# Altium footprint library PCB - LED - DUAL LED 3025.PCBLIB: 1 footprints
Each footprint in its own frame and in the unit in brackets; x right, y up, seen from the top. Pads: shape width x height; smd on the part's side, far side on the other; paste and mask are expansions set on the pad; w line width, h text height; cw(c..) or ccw(c..) is an arc to the next point about the centre after c.
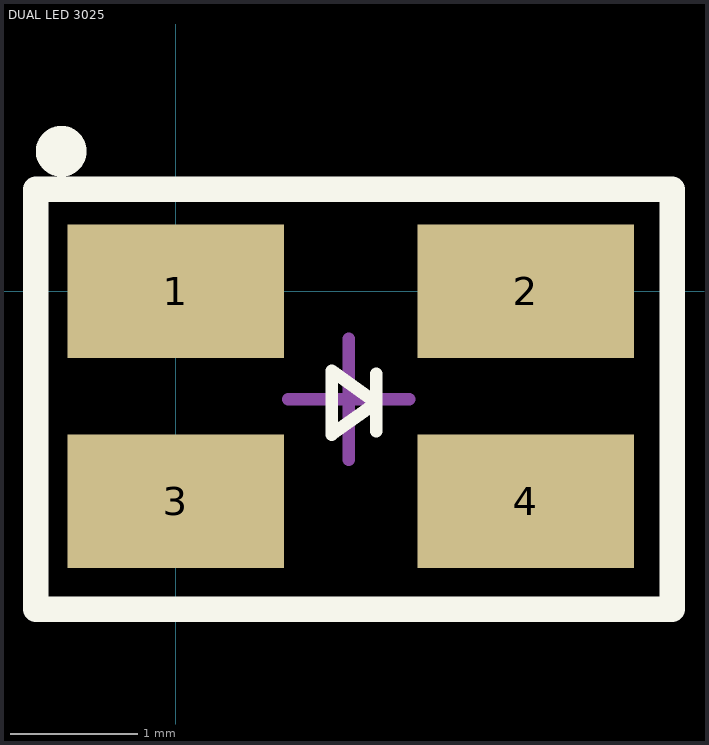
[diagram p0: the footprint, top view; thin cyan lines are the x and y axes]

## DUAL LED 3025 [mm] "Chip Diode, 4-Leads, Body 3.0x2.5mm, IPC Medium Density"
height 1.1
pads (4):
  rect 1.7x1.05 smd: 1(0,0) 2(2.75,0) 3(0,-1.65) 4(2.75,-1.65)
Top Overlay:
  circle w0.2: c-0.9,1.1 r0.1
  lines w0.1: 1.575,-1.1 1.575,-0.875 ; 1.575,-0.65 1.575,-0.875 ; 1.575,-0.875 1.225,-1.125 1.225,-0.875 1.225,-0.625 1.575,-0.875
  lines w0.2: -1.1,-2.5 3.9,-2.5 3.9,0.8 -1.1,0.8 -1.1,-2.5
Mechanical 13:
  lines w0.1: -1.1,-2.5 3.9,-2.5 3.9,0.8 -1.1,0.8 -1.1,-2.5
Mechanical 15:
  lines w0.05: -1.1,-2.5 -1.1,0.8 3.9,0.8 3.9,-2.5 -1.1,-2.5
  lines w0.1: 0.884,-0.848 1.834,-0.848 ; 1.359,-1.323 1.359,-0.373
3D body "LED 0603 Base RED.STEP": height 0.28, standoff 0, extent -0.05,-0.4 1.55,0.4
3D body "LED 0603 Lens RED.STEP": height 0.53, standoff 0.18, extent 0.2,-0.4 1.3,0.4